# EAGLE library part SN65HVD231 (library ruark2)
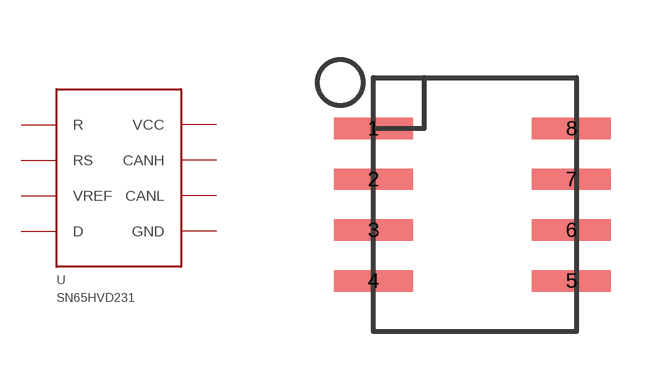
[diagram p78: symbol with the pads of SOIC8; footprint SOIC8]

Designator prefix U

## SN65HVD231  [SOIC8]
1  D
2  GND
3  VCC
4  R
5  VREF
6  CANL
7  CANH
8  RS

## Footprint SOIC8 (pad centres in mm)
smd 1.981 x 0.533: 1 -2.477,1.905; 2 -2.477,0.635; 3 -2.477,-0.635; 4 -2.477,-1.905; 5 2.477,-1.905; 6 2.477,-0.635; 7 2.477,0.635; 8 2.477,1.905